# Altium integrated library ICSP_JTAG.IntLib: 11 symbols
Pins are listed as number, name and electrical type; pins without a type are passive.

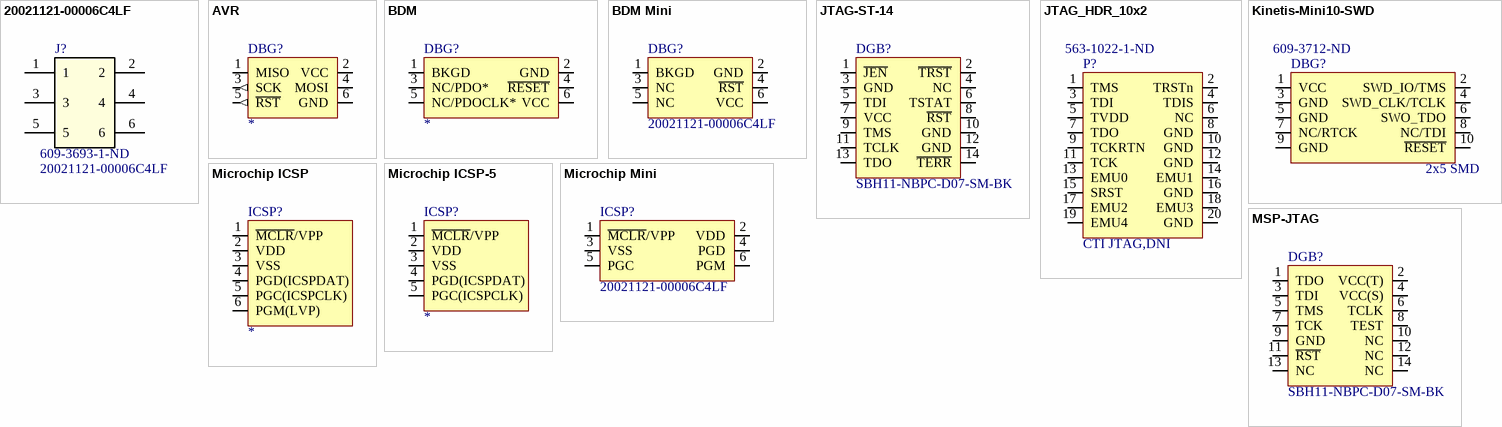
[diagram p0: symbols 20021121-00006C4LF to MSP-JTAG]

## 20021121-00006C4LF
designator J?  Supplier Part Number 1: 609-3693-1-ND
Conn Unshrouded Header HDR 6 POS 1.27mm Solder ST SMD T/R; Manufacturer: Amphenol FCI; Number of Contacts: 6; Insulation Resistance: 100MR; Contact Resistance: 30mR; Current Rating: 1A; Voltage Rating: 125V; Connector Type: Male Pin,Header; Gender: Male; Stack Height: 3mm; Row Spacing: 0.05inch; Supplier 1: Digi-Key; Manufacturer Part Number: 20021121-00006C4LF; RoHS: Yes; Category: Headers and Wire Housings; Stock 1: 10838; Pricing 1: 1=0,55000, 10=0,51200, 100=0,39280 (USD); Mount: Surface Mount; Contact Plating: Gold; Contact Material: Copper Alloy,Copper,Gold; Color: Black; Housing Material: Thermoplastic; Housing Color: Black; Min Operating Temperature: -40°C; Max Operating Temperature: 85°C; Number of Rows: 2; Termination: Solder; Packaging: Tape and Reel; Package Quantity: 600; Orientation: Straight; Number of Positions: 6; Max Voltage Rating (AC): 125V; Length: 3.81mm; Pitch: 1.27mm; Contact Mating Length: 0.12inch; Depth: 3.4mm; Radiation Hardening: No; REACH SVHC: No SVHC; ComponentLink1URL: https://datasheet.ciiva.com/11746/0900766b8118d62a-11746931.pdf?src-supplier=RSComponents; ComponentLink1Description: https://datasheet.ciiva.com/11746/0900766b8118d62a-11746931.pdf?src-supplier=RSComponents; ComponentLink2URL: https://datasheet.ciiva.com/17081/0900766b8118d62a-17081726.pdf?src-supplier=Allied+Electronics; ComponentLink2Description: https://datasheet.ciiva.com/17081/0900766b8118d62a-17081726.pdf?src-supplier=Allied+Electronics; ComponentLink3URL: https://datasheet.ciiva.com/26853/getdatasheetpartid-177142-26853982.pdf?src-supplier=Verical; ComponentLink3Description: https://datasheet.ciiva.com/26853/getdatasheetpartid-177142-26853982.pdf?src-supplier=Verical; ComponentLink4URL: https://datasheet.ciiva.com/409/20021121-409858.pdf?src-supplier=Digi-Key; ComponentLink4Description: https://datasheet.ciiva.com/409/20021121-409858.pdf?src-supplier=Digi-Key; ComponentLink5URL: https://datasheet.ciiva.com/410/20021121-410209.pdf?src-supplier=Digi-Key; ComponentLink5Description: https://datasheet.ciiva.com/410/20021121-410209.pdf?src-supplier=Digi-Key; ComponentLink6URL: https://datasheet.ciiva.com/410/20021121-410210.pdf?src-supplier=Digi-Key; ComponentLink6Description: https://datasheet.ciiva.com/410/20021121-410210.pdf?src-supplier=Digi-Key; ComponentLink7URL: https://datasheet.ciiva.com/9474/20021121-9474135.pdf?src-supplier=Avnet; ComponentLink7Description: https://datasheet.ciiva.com/9474/20021121-9474135.pdf?src-supplier=Avnet; ComponentLink8URL: https://datasheet.ciiva.com/16691/20021121-16691017.pdf?src-supplier=Avnet+Europe; ComponentLink8Description: https://datasheet.ciiva.com/16691/20021121-16691017.pdf?src-supplier=Avnet+Europe; ComponentLink9URL: https://datasheet.ciiva.com/1433/20021121-1433278.pdf?src-supplier=Element14; ComponentLink9Description: https://datasheet.ciiva.com/1433/20021121-1433278.pdf?src-supplier=Element14
footprint 20021121-00006C4LF (CONN HEADER 2X3 SMD)
pins: 1, 2, 3, 4, 5, 6

## AVR
designator DBG?
AVR Debug/ICSP; Populated: Yes; Value: *; LifeCycle: Checked; ROHS: Yes
footprint HDR2X3_2.54_180
footprint HDR2X3_2.54_180F
footprint HDR2X3_2.54_90
footprint HDR2X3_2.54_90F
pins: 1 MISO, 2 VCC, 3 SCK (out), 4 MOSI, 5 ~{RST} (out), 6 GND

## BDM
designator DBG?
BDM Debug/ICSP; Populated: Yes; Value: *; LifeCycle: Checked; ROHS: Yes
footprint HDR2X3_2.54_180
footprint HDR2X3_2.54_180F
footprint HDR2X3_2.54_90
footprint HDR2X3_2.54_90F
pins: 1 BKGD, 2 GND, 3 NC/PDO*, 4 ~{RESET}, 5 NC/PDOCLK*, 6 VCC

## BDM Mini
designator DBG?, comment 20021121-00006C4LF
BDM Mini Debug/ICSP 1.27mm; Populated: Yes; Value: 20021121-00006C4LF; Supplier 1: Digi-Key; Supplier Part Number 1: 609-3693-2-ND; LifeCycle: Checked; ROHS: Yes
footprint HDR_2x3_SMD_1_27MM
pins: 1 BKGD, 2 GND, 3 NC, 4 ~{RST}, 5 NC, 6 VCC

## JTAG-ST-14
designator DGB?, comment SBH11-NBPC-D07-SM-BK
JTAG ST 14Pin; Populated: Yes; Value: SBH11-NBPC-D07-SM-BK; Supplier 1: Digi-Key; Supplier Part Number 1: S9186-ND; LifeCycle: Checked; ROHS: Yes
footprint ML14_SMD
footprint ML14
pins: 1 ~{JEN}, 2 ~{TRST}, 3 GND, 4 NC, 5 TDI, 6 TSTAT, 7 VCC, 8 ~{RST}, 9 TMS, 10 GND, 11 TCLK, 12 GND, 13 TDO, 14 ~{TERR}

## JTAG_HDR_10x2
designator P?, comment CTI JTAG,DNI  Supplier Part Number 2: 563-1022-1-ND
Dual Line Header 10x2pin Tin; Manufacturer: Samtec Inc; Manufacturer Part Number: FTR-110-03-G-D-06; Connector Type: Unshrouded; Number of Positions: 20; Number of Positions Loaded: 19; Pitch: 0.050" (1.27mm); Row Spacing: 0.100" (2.54mm); Populated: Yes; Supplier 1: Digi-Key; Supplier Part Number 1: FTR-110-03-G-D-06-ND; RoHS: RoHS Compliant; Category: Connectors, Interconnects; Stock 1: 0; Pricing 1: 1=4.47 (USD); Number of Rows: 2; Height Stacking (Mating): -; Molding Height Above Board: 0.100" (2.54mm); Contact Mating Length: 0.125" (3.18mm); Mounting Type: Surface Mount; Termination: Solder; Contact Finish: Gold; Contact Finish Thickness: 10µin (0.25µm); Features: -; Color: Black; Packaging: Tube; ComponentLink1URL: http://www.samtec.com/documents/webfiles/cpdf/FTR-1XX-XX-XX-D-X-XX-MKT.pdf; ComponentLink1Description: http://www.samtec.com/documents/webfiles/cpdf/FTR-1XX-XX-XX-D-X-XX-MKT.pdf; Value: CTI JTAG,DNI; Supplier 2: Digi-Key
footprint HEADER10X2_SMD
pins: 1 TMS, 2 TRSTn, 3 TDI, 4 TDIS, 5 TVDD, 6 NC, 7 TDO, 8 GND (power), 9 TCKRTN, 10 GND (power), 11 TCK, 12 GND (power), 13 EMU0, 14 EMU1, 15 SRST, 16 GND (power), 17 EMU2, 18 EMU3, 19 EMU4, 20 GND (power)

## Kinetis-Mini10-SWD
designator DBG?, comment 2x5 SMD  Supplier Part Number 3: 609-3712-ND
Kinetis Debugger Mini Connector - Header, Dual row, 10 pin, 0.05 inch pitch; Manuf1: FCI; Manuf1Partnumber: 20021121-00010C4LF; Populated: Yes; LatestRevisionDate: 11-August-2015; PackageReference: 2x7; ROHS: Yes; Value: 2x5 SMD; LifeCycle: Checked; Supplier 1: Digi-Key; Supplier Part Number 1: 1175-1627-ND; Supplier 2: Digi-Key; Supplier Part Number 2: 609-3695-1-ND; Supplier 3: Digi-Key
footprint HDR_2x5_SMD_1_27MM
footprint 3220-10-0100-00 (10 Pos, Shrouded, 0.050" (1.27 mm), PTH)
footprint 20021111-00010T4LF (10 Pos, Shrouded, 0.050" (1.27 mm), PTH)
pins: 1 VCC, 2 SWD_IO/TMS, 3 GND, 4 SWD_CLK/TCLK, 5 GND, 6 SWO_TDO, 7 NC/RTCK, 8 NC/TDI, 9 GND, 10 ~{RESET}

## Microchip ICSP
designator ICSP?
Microchip ICSP 2.54mm Header; Populated: Yes; Value: *; LifeCycle: Checked; ROHS: Yes
footprint HDR1X6_1.27_180H
footprint HDR1X6_1.27_180HF
footprint HDR1X6_1.27_180HFD
footprint HDR1X6_2.54_180
footprint HDR1X6_2.54_180F
footprint HDR1X6_2.54_90
footprint HDR1X6_2.54_90F
footprint HDR1X6_2.54_180 - N/A
pins: 1 ~{MCLR}/VPP, 2 VDD, 3 VSS, 4 PGD(ICSPDAT), 5 PGC(ICSPCLK), 6 PGM(LVP)

## Microchip ICSP-5
designator ICSP?
Microchip ICSP 2.54mm Header; Populated: Yes; Value: *; LifeCycle: Checked; ROHS: Yes
footprint HDR1X5_2.54_180 - N/A
pins: 1 ~{MCLR}/VPP, 2 VDD, 3 VSS, 4 PGD(ICSPDAT), 5 PGC(ICSPCLK)

## Microchip Mini
designator ICSP?, comment 20021121-00006C4LF
Microchip Mini ICSP 1.27mm; Populated: Yes; Value: 20021121-00006C4LF; Supplier 1: Digi-Key; Supplier Part Number 1: 609-3693-2-ND; LifeCycle: Checked; ROHS: Yes
footprint HDR_2x3_SMD_1_27MM
footprint HDR1X6_1.27_180H
footprint HDR1X6_1.27_180HF
footprint HDR1X6_1.27_180HFD
pins: 1 ~{MCLR}/VPP, 2 VDD, 3 VSS, 4 PGD, 5 PGC, 6 PGM

## MSP-JTAG
designator DGB?, comment SBH11-NBPC-D07-SM-BK
TI-MSPxxx JTAG; Populated: Yes; Value: SBH11-NBPC-D07-SM-BK; Supplier 1: Digi-Key; Supplier Part Number 1: S9186-ND; LifeCycle: Checked; ROHS: Yes
footprint ML14_SMD
footprint ML14
pins: 1 TDO, 2 VCC(T), 3 TDI, 4 VCC(S), 5 TMS, 6 TCLK, 7 TCK, 8 TEST, 9 GND, 10 NC, 11 ~{RST}, 12 NC, 13 NC, 14 NC